# Altium footprint library BATHLD003SMT.PcbLib: 1 footprints
Each footprint in its own frame and in the unit in brackets; x right, y up, seen from the top. Pads: shape width x height; smd on the part's side, far side on the other; paste and mask are expansions set on the pad; w line width, h text height; cw(c..) or ccw(c..) is an arc to the next point about the centre after c.
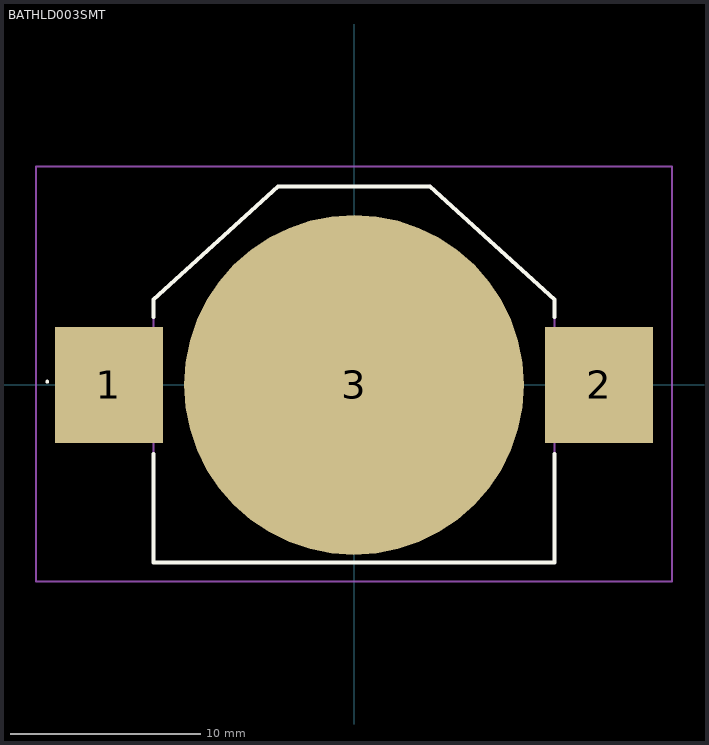
[diagram p0: the footprint, top view; thin cyan lines are the x and y axes]

## BATHLD003SMT [mm]
pads (3):
  rect 5.7x6.1 smd: 1(-12.9,0) 2(12.9,0)
  round 17.9 smd: 3(0,0)
Top Overlay:
  lines w0.1: -16.2,0.175 -16.2,0.175 ; -16.2,0.175 ccw(c-16.15,0.175) -16.1,0.175 ; -16.2,0.175 cw(c-16.15,0.175) -16.1,0.175 ; -16.1,0.175 -16.1,0.175
  lines w0.2: -10.55,-3.625 -10.55,-9.35 10.55,-9.35 10.55,-3.625 ; -10.55,3.575 -10.55,4.5 -4,10.45 4,10.45 10.55,4.5 10.55,3.575
Mechanical 15:
  lines w0.1: -10.55,-2.55 -15.2,-2.55 -15.2,2.55 -10.55,2.55 ; 4,10.45 -4,10.45 -10.55,4.5 -10.55,-9.35 10.55,-9.35 10.55,4.5 4,10.5 ; 10.55,-2.55 15.2,-2.55 15.2,2.55 10.55,2.55
Mechanical 20:
  lines w0.1: -16.75,-10.35 16.75,-10.35 16.75,11.5 -16.75,11.5 -16.75,-10.35